# Altium schematic symbol library Resistor.SchLib: 1 symbol
Pins are listed as number, name and electrical type; pins without a type are passive.

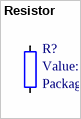
[diagram p0: symbol Resistor]

## Resistor
designator R?
Component Category: Resistor; Component Type: Fixed Value; Tolerance: *; Supplier Link: *; Supplier Currency: *; Price, Max: *; Price, Min: *; Quantity, Max: *; Quantity, Min: *; Operating Temperature, Max: *℃; Operating Temperature, Min: *℃; Manufacturer: *; Supplier Part Number: *; Supplier: *; Manufacturer Part Number: *; ComponentLink1Description: Datasheet; ComponentLink1URL: *; ComponentLink2Description: Supplier Link; ComponentLink2URL: *; Value: *; Package: *
footprint Resistor_Smd_M0603_I0201
footprint Resistor_Smd_M1005_I0402
footprint Resistor_Smd_M1608_I0603
footprint Resistor_Smd_M2012_I0805
footprint Resistor_Smd_M3216_I1206
footprint Resistor_Smd_M3225_I1210
footprint Resistor_Smd_M3246_I1812
footprint Resistor_Smd_M5025_I2010
footprint Resistor_Smd_M6332_I2512
pins: 1, 2
1 alternate drawing of the same symbol